# EAGLE library part RP2350_STAMP (library rp2xxx_stamp)
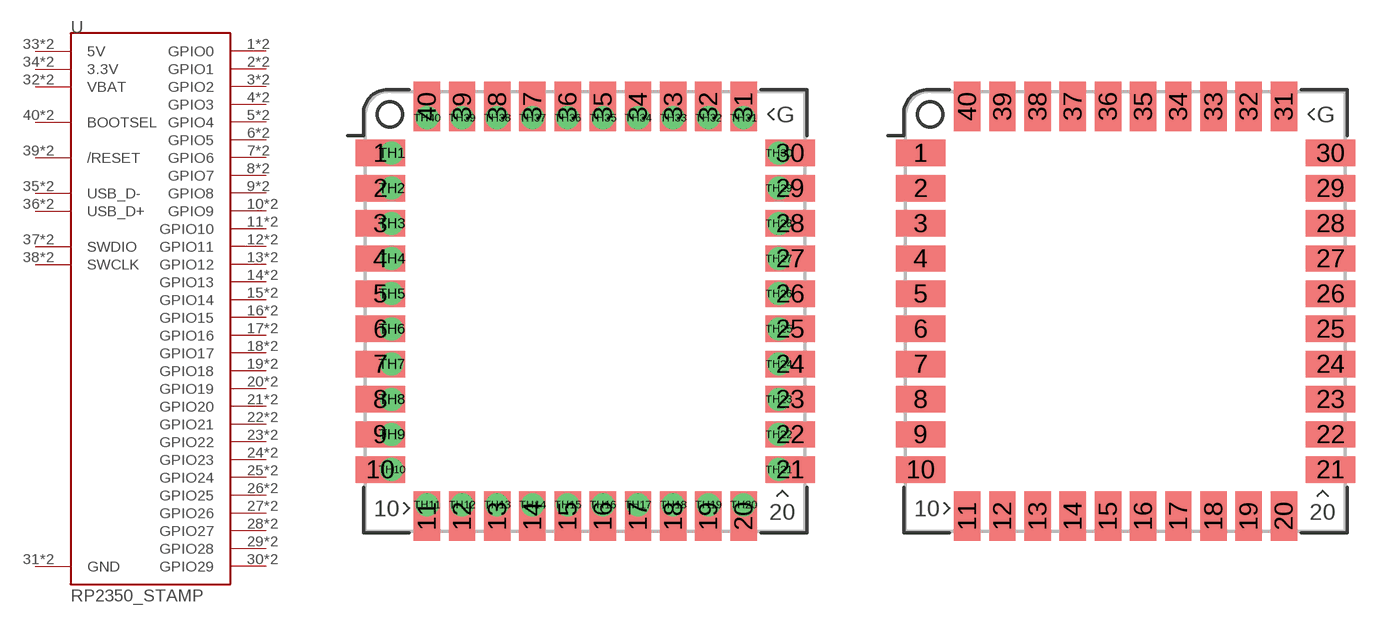
[diagram p1: symbol with the pads of RP2XXX_STAMP_TH; footprints RP2XXX_STAMP_TH, RP2XXX_STAMP_SMD]

Designator prefix -

## RP2350_STAMPTHT  [RP2XXX_STAMP_TH]
1  GPIO0
2  GPIO1
3  GPIO2
4  GPIO3
5  GPIO4
6  GPIO5
7  GPIO6
8  GPIO7
9  GPIO8
10  GPIO9
11  GPIO10
12  GPIO11
13  GPIO12
14  GPIO13
15  GPIO14
16  GPIO15
17  GPIO16
18  GPIO17
19  GPIO18
20  GPIO19
21  GPIO20
22  GPIO21
23  GPIO22
24  GPIO23
25  GPIO24
26  GPIO25
27  GPIO26
28  GPIO27
29  GPIO28
30  GPIO29
31  GND  pwr
32  VBAT  pwr
33  5V  pwr
34  3.3V  pwr
35  USB_D-
36  USB_D+
37  SWDIO
38  SWCLK  in
39  /RESET
40  BOOTSEL  in
TH1  GPIO0
TH2  GPIO1
TH3  GPIO2
TH4  GPIO3
TH5  GPIO4
TH6  GPIO5
TH7  GPIO6
TH8  GPIO7
TH9  GPIO8
TH10  GPIO9
TH11  GPIO10
TH12  GPIO11
TH13  GPIO12
TH14  GPIO13
TH15  GPIO14
TH16  GPIO15
TH17  GPIO16
TH18  GPIO17
TH19  GPIO18
TH20  GPIO19
TH21  GPIO20
TH22  GPIO21
TH23  GPIO22
TH24  GPIO23
TH25  GPIO24
TH26  GPIO25
TH27  GPIO26
TH28  GPIO27
TH29  GPIO28
TH30  GPIO29
TH31  GND  pwr
TH32  VBAT  pwr
TH33  5V  pwr
TH34  3.3V  pwr
TH35  USB_D-
TH36  USB_D+
TH37  SWDIO
TH38  SWCLK  in
TH39  /RESET
TH40  BOOTSEL  in

## RP2350_STAMPSMD  [RP2XXX_STAMP_SMD]
1  GPIO0
2  GPIO1
3  GPIO2
4  GPIO3
5  GPIO4
6  GPIO5
7  GPIO6
8  GPIO7
9  GPIO8
10  GPIO9
11  GPIO10
12  GPIO11
13  GPIO12
14  GPIO13
15  GPIO14
16  GPIO15
17  GPIO16
18  GPIO17
19  GPIO18
20  GPIO19
21  GPIO20
22  GPIO21
23  GPIO22
24  GPIO23
25  GPIO24
26  GPIO25
27  GPIO26
28  GPIO27
29  GPIO28
30  GPIO29
31  GND  pwr
32  VBAT  pwr
33  5V  pwr
34  3.3V  pwr
35  USB_D-
36  USB_D+
37  SWDIO
38  SWCLK  in
39  /RESET
40  BOOTSEL  in

## Footprint RP2XXX_STAMP_TH (pad centres in mm)
smd 2.8 x 1.5: 1 -11.65,9; 2 -11.65,7; 3 -11.65,5; 4 -11.65,3; 5 -11.65,1; 6 -11.65,-1; 7 -11.65,-3; 8 -11.65,-5; 9 -11.65,-7; 10 -11.65,-9; 21 11.65,-9; 22 11.65,-7; 23 11.65,-5; 24 11.65,-3; 25 11.65,-1; 26 11.65,1; 27 11.65,3; 28 11.65,5; 29 11.65,7; 30 11.65,9
smd 1.5 x 2.8: 11 -9,-11.65; 12 -7,-11.65; 13 -5,-11.65; 14 -3,-11.65; 15 -1,-11.65; 16 1,-11.65; 17 3,-11.65; 18 5,-11.65; 19 7,-11.65; 20 9,-11.65; 31 9,11.65; 32 7,11.65; 33 5,11.65; 34 3,11.65; 35 1,11.65; 36 -1,11.65; 37 -3,11.65; 38 -5,11.65; 39 -7,11.65; 40 -9,11.65
drill 0.8: TH1 -11,9; TH2 -11,7; TH3 -11,5; TH4 -11,3; TH5 -11,1; TH6 -11,-1; TH7 -11,-3; TH8 -11,-5; TH9 -11,-7; TH10 -11,-9; TH11 -9,-11; TH12 -7,-11; TH13 -5,-11; TH14 -3,-11; TH15 -1,-11; TH16 1,-11; TH17 3,-11; TH18 5,-11; TH19 7,-11; TH20 9,-11; TH21 11,-9; TH22 11,-7; TH23 11,-5; TH24 11,-3; TH25 11,-1; TH26 11,1; TH27 11,3; TH28 11,5; TH29 11,7; TH30 11,9; TH31 9,11; TH32 7,11; TH33 5,11; TH34 3,11; TH35 1,11; TH36 -1,11; TH37 -3,11; TH38 -5,11; TH39 -7,11; TH40 -9,11

## Footprint RP2XXX_STAMP_SMD (pad centres in mm)
smd 2.8 x 1.5: 1 -11.65,9; 2 -11.65,7; 3 -11.65,5; 4 -11.65,3; 5 -11.65,1; 6 -11.65,-1; 7 -11.65,-3; 8 -11.65,-5; 9 -11.65,-7; 10 -11.65,-9; 21 11.65,-9; 22 11.65,-7; 23 11.65,-5; 24 11.65,-3; 25 11.65,-1; 26 11.65,1; 27 11.65,3; 28 11.65,5; 29 11.65,7; 30 11.65,9
smd 1.5 x 2.8: 11 -9,-11.65; 12 -7,-11.65; 13 -5,-11.65; 14 -3,-11.65; 15 -1,-11.65; 16 1,-11.65; 17 3,-11.65; 18 5,-11.65; 19 7,-11.65; 20 9,-11.65; 31 9,11.65; 32 7,11.65; 33 5,11.65; 34 3,11.65; 35 1,11.65; 36 -1,11.65; 37 -3,11.65; 38 -5,11.65; 39 -7,11.65; 40 -9,11.65